# Altium integrated library Linear Technology Power Management Hot Swap Controllers.IntLib: 992 symbols (part 90 of 93)
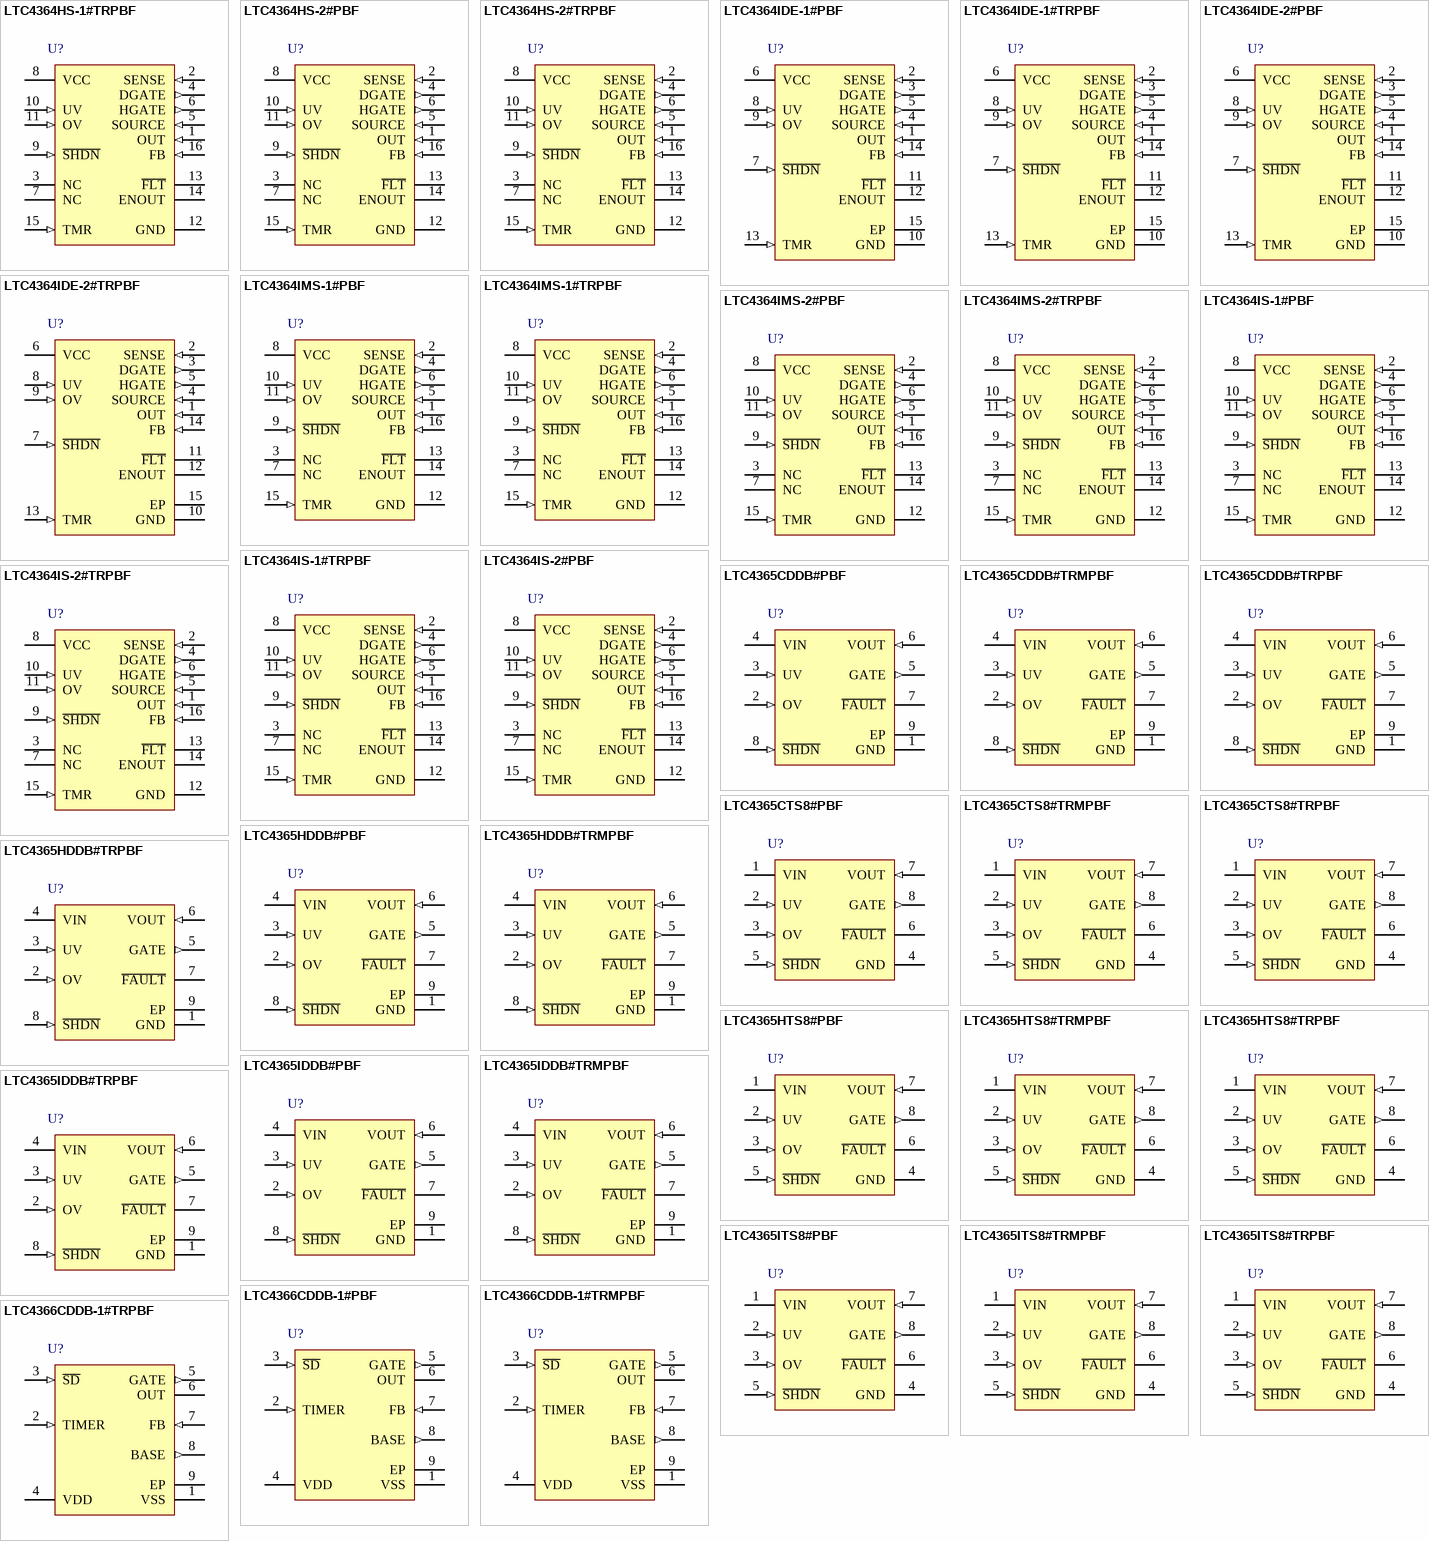
[diagram p126: symbols LTC4364HS-1#TRPBF to LTC4366CDDB-1#TRPBF]

## LTC4365IDDB#PBF
designator U?
UV, OV and Reverse Supply Protection Controller, 2.5 to 34 V Vin, 8-pin SON (DDB-8), -40 to 85 degC, Pb-Free; Manufacturer: Linear Technology; PartNumber: LTC4365IDDB#PBF; Active Limiting: no; Circuit Breakers(#): 1; Extended Temp: C, I, H; Fault: yes; PackageVersion: Rev. B, 06/2010; PackageReference: DDB-8; PackageDescription: 8-Pin Plastic DFN, Body 3 x 2 mm, Pitch 0.5 mm; Supplier 1: Farnell; Supplier Part Number 1: 2295348; Supplier 2: Newark; Supplier Part Number 2: 78T3387; Fast Comparator: no; Foldback: no; Power Good: no; Reset: no; RoHS: TRUE; Vin Range: 2.5 to 34 V; Mounting Technology: Surface Mount; Code_JEDEC: MO-229; ComponentLink1Description: Manufacturer URL; ComponentLink1URL: http://www.linear.com/; ComponentLink2Description: Datasheet; ComponentLink2URL: http://cds.linear.com/docs/en/datasheet/4365f.pdf; ComponentLink3Description: Package Specification; ComponentLink3URL: http://cds.linear.com/docs/en/packaging/DFN_8_05-08-1702.pdf
footprint LT-DDB-8_V (SON, 8-Leads, Body 3x2mm, Pitch 0.5mm, Thermal Pad 2.2x0.61mm)
pins: 1 GND (power) "Device Ground.", 2 OV (in) "Overvoltage Comparator Input. Connect this pin to an external resistive divider to set the desired VIN overvoltage fault threshold. Input to an accurate, fast (1us) comparator with a 0.5V rising threshold and 25mV of (See Datasheet)", 3 UV (in) "Undervoltage Comparator Input. Connect this pin to an external resistive divider to set the desired VIN undervoltage fault threshold. Input to an accurate, fast (1us) comparator with a 0.5V falling threshold and 25mV of (See Datasheet)", 4 VIN (power) "Power Supply Input. Maximum protection range: -40V to 60V. Operating range: 2.5V to 34V.", 5 GATE (out) "Gate Drive Output for External N-channel MOSFETs. An internal charge pump provides 20uA of pull-up current and up to 9.8V of enhancement to the gate of an external N-channel MOSFET When turned off, GATE is pulled just below (See Datasheet)", 6 VOUT (in) "Output Voltage Sense Input. This pin senses the voltage at the output side of the external N-channel MOSFET. The GATE charge pump voltage is referenced to VOUT. It is used as the charge pump input when VOUT is greater than (See Datasheet)", 7 ~{FAULT} (oc) "Fault Indication Output. This high voltage open drain output is pulled low if UV is below its monitor threshold, if OV is above its monitor threshold, if S\H\D\N\ is low, or if VIN has not risen above VIN(UVLO).", 8 ~{SHDN} (in) "Shutdown Control Input. S\H\D\N\ high enables the GATE charge pump which in turn enhances the gate of an external N-channel MOSFET. A low on S\H\D\N\ generates a pull down on the GATE output with a 90uA current sink and (See Datasheet)", 9 EP (power) "Connect to device ground"

## LTC4365IDDB#TRMPBF
designator U?
UV, OV and Reverse Supply Protection Controller, 2.5 to 34 V Vin, 8-pin SON (DDB-8), -40 to 85 degC, Pb-Free, Mini Tape and Reel; Manufacturer: Linear Technology; PartNumber: LTC4365IDDB#TRMPBF; Active Limiting: no; Circuit Breakers(#): 1; Extended Temp: C, I, H; Fault: yes; PackageVersion: Rev. B, 06/2010; PackageReference: DDB-8; PackageDescription: 8-Pin Plastic DFN, Body 3 x 2 mm, Pitch 0.5 mm; Supplier 1: Digi-Key; Supplier Part Number 1: LTC4365IDDB#TRMPBFTR-ND; Supplier 2: Digi-Key; Supplier Part Number 2: LTC4365IDDB#TRMPBFCT-ND; Supplier 3: Digi-Key; Supplier Part Number 3: LTC4365IDDB#TRMPBFDKR-ND; Supplier 4: Newark; Supplier Part Number 4: 13T4033; Fast Comparator: no; Foldback: no; Packing: Mini Tape and Reel; Power Good: no; Reset: no; RoHS: TRUE; Vin Range: 2.5 to 34 V; Mounting Technology: Surface Mount; Code_JEDEC: MO-229; ComponentLink1Description: Manufacturer URL; ComponentLink1URL: http://www.linear.com/; ComponentLink2Description: Datasheet; ComponentLink2URL: http://cds.linear.com/docs/en/datasheet/4365f.pdf; ComponentLink3Description: Package Specification; ComponentLink3URL: http://cds.linear.com/docs/en/packaging/DFN_8_05-08-1702.pdf
footprint LT-DDB-8_V (SON, 8-Leads, Body 3x2mm, Pitch 0.5mm, Thermal Pad 2.2x0.61mm)
pins: 1 GND (power) "Device Ground.", 2 OV (in) "Overvoltage Comparator Input. Connect this pin to an external resistive divider to set the desired VIN overvoltage fault threshold. Input to an accurate, fast (1us) comparator with a 0.5V rising threshold and 25mV of (See Datasheet)", 3 UV (in) "Undervoltage Comparator Input. Connect this pin to an external resistive divider to set the desired VIN undervoltage fault threshold. Input to an accurate, fast (1us) comparator with a 0.5V falling threshold and 25mV of (See Datasheet)", 4 VIN (power) "Power Supply Input. Maximum protection range: -40V to 60V. Operating range: 2.5V to 34V.", 5 GATE (out) "Gate Drive Output for External N-channel MOSFETs. An internal charge pump provides 20uA of pull-up current and up to 9.8V of enhancement to the gate of an external N-channel MOSFET When turned off, GATE is pulled just below (See Datasheet)", 6 VOUT (in) "Output Voltage Sense Input. This pin senses the voltage at the output side of the external N-channel MOSFET. The GATE charge pump voltage is referenced to VOUT. It is used as the charge pump input when VOUT is greater than (See Datasheet)", 7 ~{FAULT} (oc) "Fault Indication Output. This high voltage open drain output is pulled low if UV is below its monitor threshold, if OV is above its monitor threshold, if S\H\D\N\ is low, or if VIN has not risen above VIN(UVLO).", 8 ~{SHDN} (in) "Shutdown Control Input. S\H\D\N\ high enables the GATE charge pump which in turn enhances the gate of an external N-channel MOSFET. A low on S\H\D\N\ generates a pull down on the GATE output with a 90uA current sink and (See Datasheet)", 9 EP (power) "Connect to device ground"

## LTC4365IDDB#TRPBF
designator U?
UV, OV and Reverse Supply Protection Controller, 2.5 to 34 V Vin, 8-pin SON (DDB-8), -40 to 85 degC, Pb-Free, Tape and Reel; Manufacturer: Linear Technology; PartNumber: LTC4365IDDB#TRPBF; Active Limiting: no; Circuit Breakers(#): 1; Extended Temp: C, I, H; Fault: yes; PackageVersion: Rev. B, 06/2010; PackageReference: DDB-8; PackageDescription: 8-Pin Plastic DFN, Body 3 x 2 mm, Pitch 0.5 mm; Supplier 1: Digi-Key; Supplier Part Number 1: LTC4365IDDB#TRPBF-ND; Supplier 2: Newark; Supplier Part Number 2: 13T4034; Fast Comparator: no; Foldback: no; Packing: Tape and Reel; Power Good: no; Reset: no; RoHS: TRUE; Vin Range: 2.5 to 34 V; Mounting Technology: Surface Mount; Code_JEDEC: MO-229; ComponentLink1Description: Manufacturer URL; ComponentLink1URL: http://www.linear.com/; ComponentLink2Description: Datasheet; ComponentLink2URL: http://cds.linear.com/docs/en/datasheet/4365f.pdf; ComponentLink3Description: Package Specification; ComponentLink3URL: http://cds.linear.com/docs/en/packaging/DFN_8_05-08-1702.pdf
footprint LT-DDB-8_V (SON, 8-Leads, Body 3x2mm, Pitch 0.5mm, Thermal Pad 2.2x0.61mm)
pins: 1 GND (power) "Device Ground.", 2 OV (in) "Overvoltage Comparator Input. Connect this pin to an external resistive divider to set the desired VIN overvoltage fault threshold. Input to an accurate, fast (1us) comparator with a 0.5V rising threshold and 25mV of (See Datasheet)", 3 UV (in) "Undervoltage Comparator Input. Connect this pin to an external resistive divider to set the desired VIN undervoltage fault threshold. Input to an accurate, fast (1us) comparator with a 0.5V falling threshold and 25mV of (See Datasheet)", 4 VIN (power) "Power Supply Input. Maximum protection range: -40V to 60V. Operating range: 2.5V to 34V.", 5 GATE (out) "Gate Drive Output for External N-channel MOSFETs. An internal charge pump provides 20uA of pull-up current and up to 9.8V of enhancement to the gate of an external N-channel MOSFET When turned off, GATE is pulled just below (See Datasheet)", 6 VOUT (in) "Output Voltage Sense Input. This pin senses the voltage at the output side of the external N-channel MOSFET. The GATE charge pump voltage is referenced to VOUT. It is used as the charge pump input when VOUT is greater than (See Datasheet)", 7 ~{FAULT} (oc) "Fault Indication Output. This high voltage open drain output is pulled low if UV is below its monitor threshold, if OV is above its monitor threshold, if S\H\D\N\ is low, or if VIN has not risen above VIN(UVLO).", 8 ~{SHDN} (in) "Shutdown Control Input. S\H\D\N\ high enables the GATE charge pump which in turn enhances the gate of an external N-channel MOSFET. A low on S\H\D\N\ generates a pull down on the GATE output with a 90uA current sink and (See Datasheet)", 9 EP (power) "Connect to device ground"

## LTC4365ITS8#PBF
designator U?
UV, OV and Reverse Supply Protection Controller, 2.5 to 34 V Vin, 8-pin SOT23 (TS8-8), -40 to 85 degC, Pb-Free; Manufacturer: Linear Technology; PartNumber: LTC4365ITS8#PBF; Active Limiting: no; Circuit Breakers(#): 1; Extended Temp: C, I, H; Fault: yes; PackageVersion: Rev. A, 08/2010; PackageReference: TS8-8; PackageDescription: 8-Pin Plastic TSOT-23, Body 2.9 x 1.63 mm, Pitch 0.65 mm; Supplier 1: Newark; Supplier Part Number 1: 78T3388; Fast Comparator: no; Foldback: no; Power Good: no; Reset: no; RoHS: TRUE; Vin Range: 2.5 to 34 V; Mounting Technology: Surface Mount; Code_JEDEC: MO-193; ComponentLink1Description: Manufacturer URL; ComponentLink1URL: http://www.linear.com/; ComponentLink2Description: Datasheet; ComponentLink2URL: http://cds.linear.com/docs/en/datasheet/4365f.pdf; ComponentLink3Description: Package Specification; ComponentLink3URL: http://cds.linear.com/docs/en/packaging/SOT_8_05-08-1637.pdf
footprint LT-TS8-8-TSOT-23_V (SOT23, 8-Leads, Body 2.9x1.75mm, Pitch 0.65mm)
pins: 1 VIN (power) "Power Supply Input. Maximum protection range: -40V to 60V. Operating range: 2.5V to 34V.", 2 UV (in) "Undervoltage Comparator Input. Connect this pin to an external resistive divider to set the desired VIN undervoltage fault threshold. Input to an accurate, fast (1us) comparator with a 0.5V falling threshold and 25mV of (See Datasheet)", 3 OV (in) "Overvoltage Comparator Input. Connect this pin to an external resistive divider to set the desired VIN overvoltage fault threshold. Input to an accurate, fast (1us) comparator with a 0.5V rising threshold and 25mV of (See Datasheet)", 4 GND (power) "Device Ground", 5 ~{SHDN} (in) "Shutdown Control Input. S\H\D\N\ high enables the GATE charge pump which in turn enhances the gate of an external N-channel MOSFET. A low on S\H\D\N\ generates a pull down on the GATE output with a 90uA current sink and (See Datasheet)", 6 ~{FAULT} (oc) "Fault Indication Output. This high voltage open drain output is pulled low if UV is below its monitor threshold, if OV is above its monitor threshold, if S\H\D\N\ is low, or if VIN has not risen above VIN(UVLO).", 7 VOUT (in) "Output Voltage Sense Input. This pin senses the voltage at the output side of the external N-channel MOSFET. The GATE charge pump voltage is referenced to VOUT. It is used as the charge pump input when VOUT is greater than (See Datasheet)", 8 GATE (out) "Gate Drive Output for External N-channel MOSFETs. An internal charge pump provides 20uA of pull-up current and up to 9.8V of enhancement to the gate of an external N-channel MOSFET When turned off, GATE is pulled just below (See Datasheet)"

## LTC4365ITS8#TRMPBF
designator U?
UV, OV and Reverse Supply Protection Controller, 2.5 to 34 V Vin, 8-pin SOT23 (TS8-8), -40 to 85 degC, Pb-Free, Mini Tape and Reel; Manufacturer: Linear Technology; PartNumber: LTC4365ITS8#TRMPBF; Active Limiting: no; Circuit Breakers(#): 1; Extended Temp: C, I, H; Fault: yes; PackageVersion: Rev. A, 08/2010; PackageReference: TS8-8; PackageDescription: 8-Pin Plastic TSOT-23, Body 2.9 x 1.63 mm, Pitch 0.65 mm; Supplier 1: Digi-Key; Supplier Part Number 1: LTC4365ITS8#TRMPBF-ND; Supplier 2: Newark; Supplier Part Number 2: 13T4035; Fast Comparator: no; Foldback: no; Packing: Mini Tape and Reel; Power Good: no; Reset: no; RoHS: TRUE; Vin Range: 2.5 to 34 V; Mounting Technology: Surface Mount; Code_JEDEC: MO-193; ComponentLink1Description: Manufacturer URL; ComponentLink1URL: http://www.linear.com/; ComponentLink2Description: Datasheet; ComponentLink2URL: http://cds.linear.com/docs/en/datasheet/4365f.pdf; ComponentLink3Description: Package Specification; ComponentLink3URL: http://cds.linear.com/docs/en/packaging/SOT_8_05-08-1637.pdf
footprint LT-TS8-8-TSOT-23_V (SOT23, 8-Leads, Body 2.9x1.75mm, Pitch 0.65mm)
pins: 1 VIN (power) "Power Supply Input. Maximum protection range: -40V to 60V. Operating range: 2.5V to 34V.", 2 UV (in) "Undervoltage Comparator Input. Connect this pin to an external resistive divider to set the desired VIN undervoltage fault threshold. Input to an accurate, fast (1us) comparator with a 0.5V falling threshold and 25mV of (See Datasheet)", 3 OV (in) "Overvoltage Comparator Input. Connect this pin to an external resistive divider to set the desired VIN overvoltage fault threshold. Input to an accurate, fast (1us) comparator with a 0.5V rising threshold and 25mV of (See Datasheet)", 4 GND (power) "Device Ground", 5 ~{SHDN} (in) "Shutdown Control Input. S\H\D\N\ high enables the GATE charge pump which in turn enhances the gate of an external N-channel MOSFET. A low on S\H\D\N\ generates a pull down on the GATE output with a 90uA current sink and (See Datasheet)", 6 ~{FAULT} (oc) "Fault Indication Output. This high voltage open drain output is pulled low if UV is below its monitor threshold, if OV is above its monitor threshold, if S\H\D\N\ is low, or if VIN has not risen above VIN(UVLO).", 7 VOUT (in) "Output Voltage Sense Input. This pin senses the voltage at the output side of the external N-channel MOSFET. The GATE charge pump voltage is referenced to VOUT. It is used as the charge pump input when VOUT is greater than (See Datasheet)", 8 GATE (out) "Gate Drive Output for External N-channel MOSFETs. An internal charge pump provides 20uA of pull-up current and up to 9.8V of enhancement to the gate of an external N-channel MOSFET When turned off, GATE is pulled just below (See Datasheet)"

## LTC4365ITS8#TRPBF
designator U?
UV, OV and Reverse Supply Protection Controller, 2.5 to 34 V Vin, 8-pin SOT23 (TS8-8), -40 to 85 degC, Pb-Free, Tape and Reel; Manufacturer: Linear Technology; PartNumber: LTC4365ITS8#TRPBF; Active Limiting: no; Circuit Breakers(#): 1; Extended Temp: C, I, H; Fault: yes; PackageVersion: Rev. A, 08/2010; PackageReference: TS8-8; PackageDescription: 8-Pin Plastic TSOT-23, Body 2.9 x 1.63 mm, Pitch 0.65 mm; Supplier 1: Digi-Key; Supplier Part Number 1: LTC4365ITS8#TRPBF-ND; Supplier 2: Newark; Supplier Part Number 2: 13T4036; Fast Comparator: no; Foldback: no; Packing: Tape and Reel; Power Good: no; Reset: no; RoHS: TRUE; Vin Range: 2.5 to 34 V; Mounting Technology: Surface Mount; Code_JEDEC: MO-193; ComponentLink1Description: Manufacturer URL; ComponentLink1URL: http://www.linear.com/; ComponentLink2Description: Datasheet; ComponentLink2URL: http://cds.linear.com/docs/en/datasheet/4365f.pdf; ComponentLink3Description: Package Specification; ComponentLink3URL: http://cds.linear.com/docs/en/packaging/SOT_8_05-08-1637.pdf
footprint LT-TS8-8-TSOT-23_V (SOT23, 8-Leads, Body 2.9x1.75mm, Pitch 0.65mm)
pins: 1 VIN (power) "Power Supply Input. Maximum protection range: -40V to 60V. Operating range: 2.5V to 34V.", 2 UV (in) "Undervoltage Comparator Input. Connect this pin to an external resistive divider to set the desired VIN undervoltage fault threshold. Input to an accurate, fast (1us) comparator with a 0.5V falling threshold and 25mV of (See Datasheet)", 3 OV (in) "Overvoltage Comparator Input. Connect this pin to an external resistive divider to set the desired VIN overvoltage fault threshold. Input to an accurate, fast (1us) comparator with a 0.5V rising threshold and 25mV of (See Datasheet)", 4 GND (power) "Device Ground", 5 ~{SHDN} (in) "Shutdown Control Input. S\H\D\N\ high enables the GATE charge pump which in turn enhances the gate of an external N-channel MOSFET. A low on S\H\D\N\ generates a pull down on the GATE output with a 90uA current sink and (See Datasheet)", 6 ~{FAULT} (oc) "Fault Indication Output. This high voltage open drain output is pulled low if UV is below its monitor threshold, if OV is above its monitor threshold, if S\H\D\N\ is low, or if VIN has not risen above VIN(UVLO).", 7 VOUT (in) "Output Voltage Sense Input. This pin senses the voltage at the output side of the external N-channel MOSFET. The GATE charge pump voltage is referenced to VOUT. It is used as the charge pump input when VOUT is greater than (See Datasheet)", 8 GATE (out) "Gate Drive Output for External N-channel MOSFETs. An internal charge pump provides 20uA of pull-up current and up to 9.8V of enhancement to the gate of an external N-channel MOSFET When turned off, GATE is pulled just below (See Datasheet)"

## LTC4366CDDB-1#PBF
designator U?
High Voltage Surge Stopper, 9 to Over 500 V Vin, 8-pin SON (DDB-8), 0 to 70 degC, Pb-Free; Manufacturer: Linear Technology; PartNumber: LTC4366CDDB-1#PBF; Circuit Breakers(#): 1; Extended Temp: C, I, H, MP; Fast Comparator: no; DatasheetVersion: Rev. C; PackageVersion: Rev. B, 06/2010; PackageReference: DDB-8; PackageDescription: 8-Pin Plastic DFN, Body 3 x 2 mm, Pitch 0.5 mm; Power Good: no; RoHS: TRUE; Vin Range: 9 to Over 500 V; Mounting Technology: Surface Mount; Code_JEDEC: MO-229; ComponentLink1Description: Manufacturer URL; ComponentLink1URL: http://www.linear.com/; ComponentLink2Description: Datasheet; ComponentLink2URL: http://cds.linear.com/docs/en/datasheet/436612fc.pdf; ComponentLink3Description: Package Specification; ComponentLink3URL: http://cds.linear.com/docs/en/packaging/DFN_8_05-08-1702.pdf
footprint LT-DDB-8_V (SON, 8-Leads, Body 3x2mm, Pitch 0.5mm, Thermal Pad 2.2x0.61mm)
pins: 1 VSS (power) "Device Return and Substrate. The capacitors on the TIMER and OUT pins should be returned to this pin.", 2 TIMER (in) "Timer Input. Leave this pin open for a 1us overvoltage regulation period before fault off. Connect a capacitor between this pin and VSS to set a 278ms/uF duration for overvoltage regulation before the switch is turned off. (See Datasheet)", 3 ~{SD} (in) "Shutdown Comparator Input. Tie to VDD if unused. Connect pin to a limited current pull down created by adding a resistor in series with an open-drain or open-collector pull-down transistor. Activating the external pull down (See Datasheet)", 4 VDD (power) "Start-Up Supply. Supply input for 7.5uA start-up current source that charges the gate of the external N-channel MOSFET. Also provides supply for timer and logic circuits active when the external MOSFET is off. This pin is (See Datasheet)", 5 GATE (out) "Gate Drive for External N-Channel MOSFET. During start-up an internal 7.5uA current source charges the gate of the external N-channel MOSFET from the VDD pin. Once the OUT voltage is above VSS by 4.75V, the charge pump will (See Datasheet)", 6 OUT (power) "Charge Pump and Overvoltage Regulation Amplifier Supply Voltage. Supply input for floating circuitry powered from the MOSFET source. Once the OUT voltage is above 4.75V (UVLO2), the charge pump will turn on and draw power (See Datasheet)", 7 FB (in) "Overvoltage Regulation Amplifier Feedback Input. Connect this pin to an external resistive divider from OUT to ground. The overvoltage regulation amplifier controls the gate of the external N-channel MOSFET to regulate the (See Datasheet)", 8 BASE (out) "Base Driver Output for External PNP Shunt Regulator. This pin is connected to the anode of an internal 6.2V Zener with the cathode tied to OUT. In cases where lower Q current is desired but a large VSS resistor is (See Datasheet)", 9 EP (power) "The exposed pad may be left open or connected to VSS."

## LTC4366CDDB-1#TRMPBF
designator U?
High Voltage Surge Stopper, 9 to Over 500 V Vin, 8-pin SON (DDB-8), 0 to 70 degC, Pb-Free, Mini Tape and Reel; Manufacturer: Linear Technology; PartNumber: LTC4366CDDB-1#TRMPBF; Circuit Breakers(#): 1; Extended Temp: C, I, H, MP; Fast Comparator: no; DatasheetVersion: Rev. C; PackageVersion: Rev. B, 06/2010; PackageReference: DDB-8; PackageDescription: 8-Pin Plastic DFN, Body 3 x 2 mm, Pitch 0.5 mm; Supplier 1: Digi-Key; Supplier Part Number 1: LTC4366CDDB-1#TRMPBFTR-ND; Supplier 2: Digi-Key; Supplier Part Number 2: LTC4366CDDB-1#TRMPBFCT-ND; Supplier 3: Digi-Key; Supplier Part Number 3: LTC4366CDDB-1#TRMPBFDKR-ND; Supplier 4: Farnell; Supplier Part Number 4: 2097912; Packing: Mini Tape and Reel; Power Good: no; RoHS: TRUE; Vin Range: 9 to Over 500 V; Mounting Technology: Surface Mount; Code_JEDEC: MO-229; ComponentLink1Description: Manufacturer URL; ComponentLink1URL: http://www.linear.com/; ComponentLink2Description: Datasheet; ComponentLink2URL: http://cds.linear.com/docs/en/datasheet/436612fc.pdf; ComponentLink3Description: Package Specification; ComponentLink3URL: http://cds.linear.com/docs/en/packaging/DFN_8_05-08-1702.pdf
footprint LT-DDB-8_V (SON, 8-Leads, Body 3x2mm, Pitch 0.5mm, Thermal Pad 2.2x0.61mm)
pins: 1 VSS (power) "Device Return and Substrate. The capacitors on the TIMER and OUT pins should be returned to this pin.", 2 TIMER (in) "Timer Input. Leave this pin open for a 1us overvoltage regulation period before fault off. Connect a capacitor between this pin and VSS to set a 278ms/uF duration for overvoltage regulation before the switch is turned off. (See Datasheet)", 3 ~{SD} (in) "Shutdown Comparator Input. Tie to VDD if unused. Connect pin to a limited current pull down created by adding a resistor in series with an open-drain or open-collector pull-down transistor. Activating the external pull down (See Datasheet)", 4 VDD (power) "Start-Up Supply. Supply input for 7.5uA start-up current source that charges the gate of the external N-channel MOSFET. Also provides supply for timer and logic circuits active when the external MOSFET is off. This pin is (See Datasheet)", 5 GATE (out) "Gate Drive for External N-Channel MOSFET. During start-up an internal 7.5uA current source charges the gate of the external N-channel MOSFET from the VDD pin. Once the OUT voltage is above VSS by 4.75V, the charge pump will (See Datasheet)", 6 OUT (power) "Charge Pump and Overvoltage Regulation Amplifier Supply Voltage. Supply input for floating circuitry powered from the MOSFET source. Once the OUT voltage is above 4.75V (UVLO2), the charge pump will turn on and draw power (See Datasheet)", 7 FB (in) "Overvoltage Regulation Amplifier Feedback Input. Connect this pin to an external resistive divider from OUT to ground. The overvoltage regulation amplifier controls the gate of the external N-channel MOSFET to regulate the (See Datasheet)", 8 BASE (out) "Base Driver Output for External PNP Shunt Regulator. This pin is connected to the anode of an internal 6.2V Zener with the cathode tied to OUT. In cases where lower Q current is desired but a large VSS resistor is (See Datasheet)", 9 EP (power) "The exposed pad may be left open or connected to VSS."

## LTC4366CDDB-1#TRPBF
designator U?
High Voltage Surge Stopper, 9 to Over 500 V Vin, 8-pin SON (DDB-8), 0 to 70 degC, Pb-Free, Tape and Reel; Manufacturer: Linear Technology; PartNumber: LTC4366CDDB-1#TRPBF; Circuit Breakers(#): 1; Extended Temp: C, I, H, MP; Fast Comparator: no; DatasheetVersion: Rev. C; PackageVersion: Rev. B, 06/2010; PackageReference: DDB-8; PackageDescription: 8-Pin Plastic DFN, Body 3 x 2 mm, Pitch 0.5 mm; Supplier 1: Digi-Key; Supplier Part Number 1: LTC4366CDDB-1#TRPBF-ND; Packing: Tape and Reel; Power Good: no; RoHS: TRUE; Vin Range: 9 to Over 500 V; Mounting Technology: Surface Mount; Code_JEDEC: MO-229; ComponentLink1Description: Manufacturer URL; ComponentLink1URL: http://www.linear.com/; ComponentLink2Description: Datasheet; ComponentLink2URL: http://cds.linear.com/docs/en/datasheet/436612fc.pdf; ComponentLink3Description: Package Specification; ComponentLink3URL: http://cds.linear.com/docs/en/packaging/DFN_8_05-08-1702.pdf
footprint LT-DDB-8_V (SON, 8-Leads, Body 3x2mm, Pitch 0.5mm, Thermal Pad 2.2x0.61mm)
pins: 1 VSS (power) "Device Return and Substrate. The capacitors on the TIMER and OUT pins should be returned to this pin.", 2 TIMER (in) "Timer Input. Leave this pin open for a 1us overvoltage regulation period before fault off. Connect a capacitor between this pin and VSS to set a 278ms/uF duration for overvoltage regulation before the switch is turned off. (See Datasheet)", 3 ~{SD} (in) "Shutdown Comparator Input. Tie to VDD if unused. Connect pin to a limited current pull down created by adding a resistor in series with an open-drain or open-collector pull-down transistor. Activating the external pull down (See Datasheet)", 4 VDD (power) "Start-Up Supply. Supply input for 7.5uA start-up current source that charges the gate of the external N-channel MOSFET. Also provides supply for timer and logic circuits active when the external MOSFET is off. This pin is (See Datasheet)", 5 GATE (out) "Gate Drive for External N-Channel MOSFET. During start-up an internal 7.5uA current source charges the gate of the external N-channel MOSFET from the VDD pin. Once the OUT voltage is above VSS by 4.75V, the charge pump will (See Datasheet)", 6 OUT (power) "Charge Pump and Overvoltage Regulation Amplifier Supply Voltage. Supply input for floating circuitry powered from the MOSFET source. Once the OUT voltage is above 4.75V (UVLO2), the charge pump will turn on and draw power (See Datasheet)", 7 FB (in) "Overvoltage Regulation Amplifier Feedback Input. Connect this pin to an external resistive divider from OUT to ground. The overvoltage regulation amplifier controls the gate of the external N-channel MOSFET to regulate the (See Datasheet)", 8 BASE (out) "Base Driver Output for External PNP Shunt Regulator. This pin is connected to the anode of an internal 6.2V Zener with the cathode tied to OUT. In cases where lower Q current is desired but a large VSS resistor is (See Datasheet)", 9 EP (power) "The exposed pad may be left open or connected to VSS."

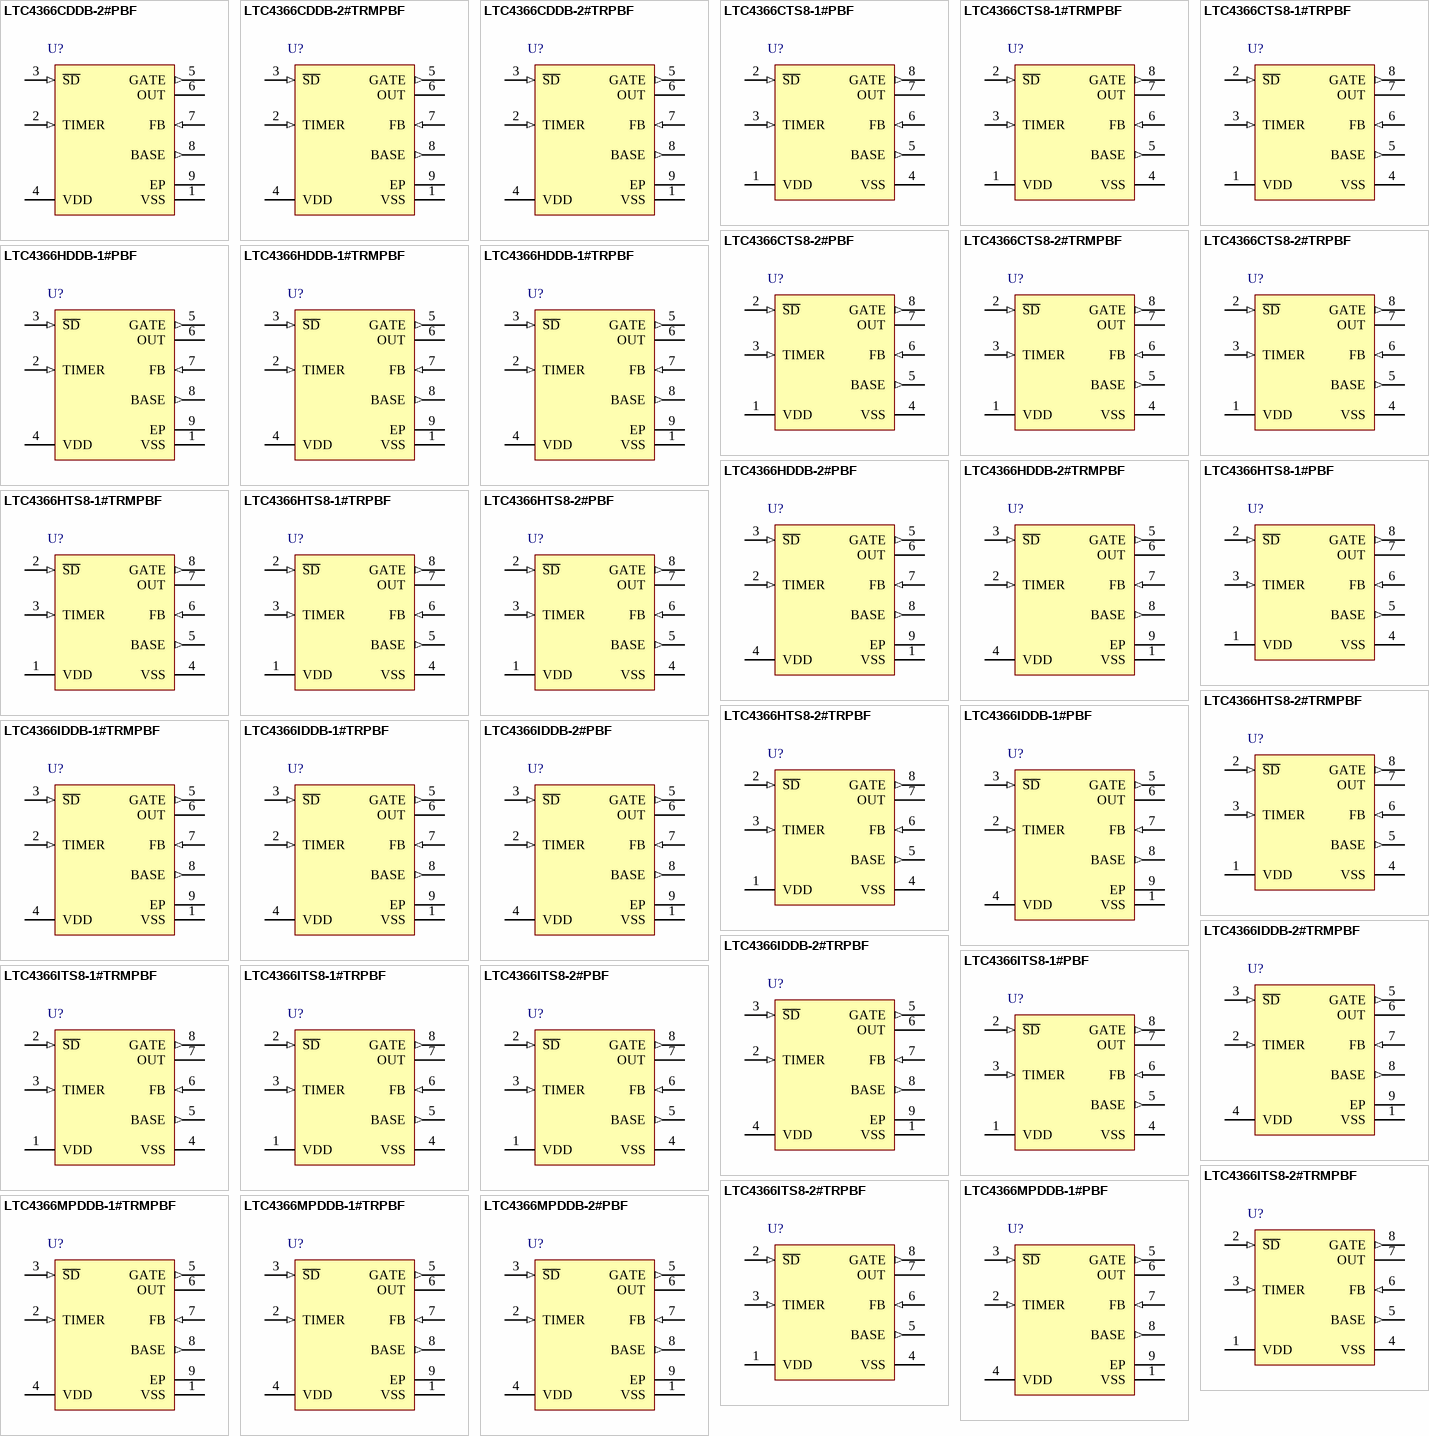
[diagram p36: symbols LTC4366CDDB-2#PBF to LTC4366MPDDB-2#PBF]

## LTC4366CDDB-2#PBF
designator U?
High Voltage Surge Stopper, 9 to Over 500 V Vin, 8-pin SON (DDB-8), 0 to 70 degC, Pb-Free; Manufacturer: Linear Technology; PartNumber: LTC4366CDDB-2#PBF; Circuit Breakers(#): 1; Extended Temp: C, I, H, MP; Fast Comparator: no; DatasheetVersion: Rev. C; PackageVersion: Rev. B, 06/2010; PackageReference: DDB-8; PackageDescription: 8-Pin Plastic DFN, Body 3 x 2 mm, Pitch 0.5 mm; Power Good: no; RoHS: TRUE; Vin Range: 9 to Over 500 V; Mounting Technology: Surface Mount; Code_JEDEC: MO-229; ComponentLink1Description: Manufacturer URL; ComponentLink1URL: http://www.linear.com/; ComponentLink2Description: Datasheet; ComponentLink2URL: http://cds.linear.com/docs/en/datasheet/436612fc.pdf; ComponentLink3Description: Package Specification; ComponentLink3URL: http://cds.linear.com/docs/en/packaging/DFN_8_05-08-1702.pdf
footprint LT-DDB-8_V (SON, 8-Leads, Body 3x2mm, Pitch 0.5mm, Thermal Pad 2.2x0.61mm)
pins: 1 VSS (power) "Device Return and Substrate. The capacitors on the TIMER and OUT pins should be returned to this pin.", 2 TIMER (in) "Timer Input. Leave this pin open for a 1us overvoltage regulation period before fault off. Connect a capacitor between this pin and VSS to set a 278ms/uF duration for overvoltage regulation before the switch is turned off. (See Datasheet)", 3 ~{SD} (in) "Shutdown Comparator Input. Tie to VDD if unused. Connect pin to a limited current pull down created by adding a resistor in series with an open-drain or open-collector pull-down transistor. Activating the external pull down (See Datasheet)", 4 VDD (power) "Start-Up Supply. Supply input for 7.5uA start-up current source that charges the gate of the external N-channel MOSFET. Also provides supply for timer and logic circuits active when the external MOSFET is off. This pin is (See Datasheet)", 5 GATE (out) "Gate Drive for External N-Channel MOSFET. During start-up an internal 7.5uA current source charges the gate of the external N-channel MOSFET from the VDD pin. Once the OUT voltage is above VSS by 4.75V, the charge pump will (See Datasheet)", 6 OUT (power) "Charge Pump and Overvoltage Regulation Amplifier Supply Voltage. Supply input for floating circuitry powered from the MOSFET source. Once the OUT voltage is above 4.75V (UVLO2), the charge pump will turn on and draw power (See Datasheet)", 7 FB (in) "Overvoltage Regulation Amplifier Feedback Input. Connect this pin to an external resistive divider from OUT to ground. The overvoltage regulation amplifier controls the gate of the external N-channel MOSFET to regulate the (See Datasheet)", 8 BASE (out) "Base Driver Output for External PNP Shunt Regulator. This pin is connected to the anode of an internal 6.2V Zener with the cathode tied to OUT. In cases where lower Q current is desired but a large VSS resistor is (See Datasheet)", 9 EP (power) "The exposed pad may be left open or connected to VSS."

## LTC4366CDDB-2#TRMPBF
designator U?
High Voltage Surge Stopper, 9 to Over 500 V Vin, 8-pin SON (DDB-8), 0 to 70 degC, Pb-Free, Mini Tape and Reel; Manufacturer: Linear Technology; PartNumber: LTC4366CDDB-2#TRMPBF; Circuit Breakers(#): 1; Extended Temp: C, I, H, MP; Fast Comparator: no; DatasheetVersion: Rev. C; PackageVersion: Rev. B, 06/2010; PackageReference: DDB-8; PackageDescription: 8-Pin Plastic DFN, Body 3 x 2 mm, Pitch 0.5 mm; Supplier 1: Digi-Key; Supplier Part Number 1: LTC4366CDDB-2#TRMPBFTR-ND; Supplier 2: Digi-Key; Supplier Part Number 2: LTC4366CDDB-2#TRMPBFCT-ND; Supplier 3: Digi-Key; Supplier Part Number 3: LTC4366CDDB-2#TRMPBFDKR-ND; Supplier 4: Farnell; Supplier Part Number 4: 2097907; Packing: Mini Tape and Reel; Power Good: no; RoHS: TRUE; Vin Range: 9 to Over 500 V; Mounting Technology: Surface Mount; Code_JEDEC: MO-229; ComponentLink1Description: Manufacturer URL; ComponentLink1URL: http://www.linear.com/; ComponentLink2Description: Datasheet; ComponentLink2URL: http://cds.linear.com/docs/en/datasheet/436612fc.pdf; ComponentLink3Description: Package Specification; ComponentLink3URL: http://cds.linear.com/docs/en/packaging/DFN_8_05-08-1702.pdf
footprint LT-DDB-8_V (SON, 8-Leads, Body 3x2mm, Pitch 0.5mm, Thermal Pad 2.2x0.61mm)
pins: 1 VSS (power) "Device Return and Substrate. The capacitors on the TIMER and OUT pins should be returned to this pin.", 2 TIMER (in) "Timer Input. Leave this pin open for a 1us overvoltage regulation period before fault off. Connect a capacitor between this pin and VSS to set a 278ms/uF duration for overvoltage regulation before the switch is turned off. (See Datasheet)", 3 ~{SD} (in) "Shutdown Comparator Input. Tie to VDD if unused. Connect pin to a limited current pull down created by adding a resistor in series with an open-drain or open-collector pull-down transistor. Activating the external pull down (See Datasheet)", 4 VDD (power) "Start-Up Supply. Supply input for 7.5uA start-up current source that charges the gate of the external N-channel MOSFET. Also provides supply for timer and logic circuits active when the external MOSFET is off. This pin is (See Datasheet)", 5 GATE (out) "Gate Drive for External N-Channel MOSFET. During start-up an internal 7.5uA current source charges the gate of the external N-channel MOSFET from the VDD pin. Once the OUT voltage is above VSS by 4.75V, the charge pump will (See Datasheet)", 6 OUT (power) "Charge Pump and Overvoltage Regulation Amplifier Supply Voltage. Supply input for floating circuitry powered from the MOSFET source. Once the OUT voltage is above 4.75V (UVLO2), the charge pump will turn on and draw power (See Datasheet)", 7 FB (in) "Overvoltage Regulation Amplifier Feedback Input. Connect this pin to an external resistive divider from OUT to ground. The overvoltage regulation amplifier controls the gate of the external N-channel MOSFET to regulate the (See Datasheet)", 8 BASE (out) "Base Driver Output for External PNP Shunt Regulator. This pin is connected to the anode of an internal 6.2V Zener with the cathode tied to OUT. In cases where lower Q current is desired but a large VSS resistor is (See Datasheet)", 9 EP (power) "The exposed pad may be left open or connected to VSS."

## LTC4366CDDB-2#TRPBF
designator U?
High Voltage Surge Stopper, 9 to Over 500 V Vin, 8-pin SON (DDB-8), 0 to 70 degC, Pb-Free, Tape and Reel; Manufacturer: Linear Technology; PartNumber: LTC4366CDDB-2#TRPBF; Circuit Breakers(#): 1; Extended Temp: C, I, H, MP; Fast Comparator: no; DatasheetVersion: Rev. C; PackageVersion: Rev. B, 06/2010; PackageReference: DDB-8; PackageDescription: 8-Pin Plastic DFN, Body 3 x 2 mm, Pitch 0.5 mm; Supplier 1: Digi-Key; Supplier Part Number 1: LTC4366CDDB-2#TRPBF-ND; Packing: Tape and Reel; Power Good: no; RoHS: TRUE; Vin Range: 9 to Over 500 V; Mounting Technology: Surface Mount; Code_JEDEC: MO-229; ComponentLink1Description: Manufacturer URL; ComponentLink1URL: http://www.linear.com/; ComponentLink2Description: Datasheet; ComponentLink2URL: http://cds.linear.com/docs/en/datasheet/436612fc.pdf; ComponentLink3Description: Package Specification; ComponentLink3URL: http://cds.linear.com/docs/en/packaging/DFN_8_05-08-1702.pdf
footprint LT-DDB-8_V (SON, 8-Leads, Body 3x2mm, Pitch 0.5mm, Thermal Pad 2.2x0.61mm)
pins: 1 VSS (power) "Device Return and Substrate. The capacitors on the TIMER and OUT pins should be returned to this pin.", 2 TIMER (in) "Timer Input. Leave this pin open for a 1us overvoltage regulation period before fault off. Connect a capacitor between this pin and VSS to set a 278ms/uF duration for overvoltage regulation before the switch is turned off. (See Datasheet)", 3 ~{SD} (in) "Shutdown Comparator Input. Tie to VDD if unused. Connect pin to a limited current pull down created by adding a resistor in series with an open-drain or open-collector pull-down transistor. Activating the external pull down (See Datasheet)", 4 VDD (power) "Start-Up Supply. Supply input for 7.5uA start-up current source that charges the gate of the external N-channel MOSFET. Also provides supply for timer and logic circuits active when the external MOSFET is off. This pin is (See Datasheet)", 5 GATE (out) "Gate Drive for External N-Channel MOSFET. During start-up an internal 7.5uA current source charges the gate of the external N-channel MOSFET from the VDD pin. Once the OUT voltage is above VSS by 4.75V, the charge pump will (See Datasheet)", 6 OUT (power) "Charge Pump and Overvoltage Regulation Amplifier Supply Voltage. Supply input for floating circuitry powered from the MOSFET source. Once the OUT voltage is above 4.75V (UVLO2), the charge pump will turn on and draw power (See Datasheet)", 7 FB (in) "Overvoltage Regulation Amplifier Feedback Input. Connect this pin to an external resistive divider from OUT to ground. The overvoltage regulation amplifier controls the gate of the external N-channel MOSFET to regulate the (See Datasheet)", 8 BASE (out) "Base Driver Output for External PNP Shunt Regulator. This pin is connected to the anode of an internal 6.2V Zener with the cathode tied to OUT. In cases where lower Q current is desired but a large VSS resistor is (See Datasheet)", 9 EP (power) "The exposed pad may be left open or connected to VSS."

## LTC4366CTS8-1#PBF
designator U?
High Voltage Surge Stopper, 9 to Over 500 V Vin, 8-pin SOT23 (TS8-8), 0 to 70 degC, Pb-Free; Manufacturer: Linear Technology; PartNumber: LTC4366CTS8-1#PBF; Circuit Breakers(#): 1; Extended Temp: C, I, H, MP; Fast Comparator: no; DatasheetVersion: Rev. C; PackageVersion: Rev. A, 08/2010; PackageReference: TS8-8; PackageDescription: 8-Pin Plastic TSOT-23, Body 2.9 x 1.63 mm, Pitch 0.65 mm; Power Good: no; RoHS: TRUE; Vin Range: 9 to Over 500 V; Mounting Technology: Surface Mount; Code_JEDEC: MO-193; ComponentLink1Description: Manufacturer URL; ComponentLink1URL: http://www.linear.com/; ComponentLink2Description: Datasheet; ComponentLink2URL: http://cds.linear.com/docs/en/datasheet/436612fc.pdf; ComponentLink3Description: Package Specification; ComponentLink3URL: http://cds.linear.com/docs/en/packaging/SOT_8_05-08-1637.pdf
footprint LT-TS8-8-TSOT-23_V (SOT23, 8-Leads, Body 2.9x1.75mm, Pitch 0.65mm)
pins: 1 VDD (power) "Start-Up Supply. Supply input for 7.5uA start-up current source that charges the gate of the external N-channel MOSFET. Also provides supply for timer and logic circuits active when the external MOSFET is off. This pin is (See Datasheet)", 2 ~{SD} (in) "Shutdown Comparator Input. Tie to VDD if unused. Connect pin to a limited current pull down created by adding a resistor in series with an open-drain or open-collector pull-down transistor. Activating the external pull down (See Datasheet)", 3 TIMER (in) "Timer Input. Leave this pin open for a 1us overvoltage regulation period before fault off. Connect a capacitor between this pin and VSS to set a 278ms/uF duration for overvoltage regulation before the switch is turned off. (See Datasheet)", 4 VSS (power) "Device Return and Substrate. The capacitors on the TIMER and OUT pins should be returned to this pin.", 5 BASE (out) "Base Driver Output for External PNP Shunt Regulator. This pin is connected to the anode of an internal 6.2V Zener with the cathode tied to OUT. In cases where lower Q current is desired but a large VSS resistor is (See Datasheet)", 6 FB (in) "Overvoltage Regulation Amplifier Feedback Input. Connect this pin to an external resistive divider from OUT to ground. The overvoltage regulation amplifier controls the gate of the external N-channel MOSFET to regulate the (See Datasheet)", 7 OUT (power) "Charge Pump and Overvoltage Regulation Amplifier Supply Voltage. Supply input for floating circuitry powered from the MOSFET source. Once the OUT voltage is above 4.75V (UVLO2), the charge pump will turn on and draw power (See Datasheet)", 8 GATE (out) "Gate Drive for External N-Channel MOSFET. During start-up an internal 7.5uA current source charges the gate of the external N-channel MOSFET from the VDD pin. Once the OUT voltage is above VSS by 4.75V, the charge pump will (See Datasheet)"

## LTC4366CTS8-1#TRMPBF
designator U?
High Voltage Surge Stopper, 9 to Over 500 V Vin, 8-pin SOT23 (TS8-8), 0 to 70 degC, Pb-Free, Mini Tape and Reel; Manufacturer: Linear Technology; PartNumber: LTC4366CTS8-1#TRMPBF; Circuit Breakers(#): 1; Extended Temp: C, I, H, MP; Fast Comparator: no; DatasheetVersion: Rev. C; PackageVersion: Rev. A, 08/2010; PackageReference: TS8-8; PackageDescription: 8-Pin Plastic TSOT-23, Body 2.9 x 1.63 mm, Pitch 0.65 mm; Supplier 1: Digi-Key; Supplier Part Number 1: LTC4366CTS8-1#TRMPBFTR-ND; Supplier 2: Digi-Key; Supplier Part Number 2: LTC4366CTS8-1#TRMPBFCT-ND; Supplier 3: Digi-Key; Supplier Part Number 3: LTC4366CTS8-1#TRMPBFDKR-ND; Supplier 4: Farnell; Supplier Part Number 4: 2097915; Packing: Mini Tape and Reel; Power Good: no; RoHS: TRUE; Vin Range: 9 to Over 500 V; Mounting Technology: Surface Mount; Code_JEDEC: MO-193; ComponentLink1Description: Manufacturer URL; ComponentLink1URL: http://www.linear.com/; ComponentLink2Description: Datasheet; ComponentLink2URL: http://cds.linear.com/docs/en/datasheet/436612fc.pdf; ComponentLink3Description: Package Specification; ComponentLink3URL: http://cds.linear.com/docs/en/packaging/SOT_8_05-08-1637.pdf
footprint LT-TS8-8-TSOT-23_V (SOT23, 8-Leads, Body 2.9x1.75mm, Pitch 0.65mm)
pins: 1 VDD (power) "Start-Up Supply. Supply input for 7.5uA start-up current source that charges the gate of the external N-channel MOSFET. Also provides supply for timer and logic circuits active when the external MOSFET is off. This pin is (See Datasheet)", 2 ~{SD} (in) "Shutdown Comparator Input. Tie to VDD if unused. Connect pin to a limited current pull down created by adding a resistor in series with an open-drain or open-collector pull-down transistor. Activating the external pull down (See Datasheet)", 3 TIMER (in) "Timer Input. Leave this pin open for a 1us overvoltage regulation period before fault off. Connect a capacitor between this pin and VSS to set a 278ms/uF duration for overvoltage regulation before the switch is turned off. (See Datasheet)", 4 VSS (power) "Device Return and Substrate. The capacitors on the TIMER and OUT pins should be returned to this pin.", 5 BASE (out) "Base Driver Output for External PNP Shunt Regulator. This pin is connected to the anode of an internal 6.2V Zener with the cathode tied to OUT. In cases where lower Q current is desired but a large VSS resistor is (See Datasheet)", 6 FB (in) "Overvoltage Regulation Amplifier Feedback Input. Connect this pin to an external resistive divider from OUT to ground. The overvoltage regulation amplifier controls the gate of the external N-channel MOSFET to regulate the (See Datasheet)", 7 OUT (power) "Charge Pump and Overvoltage Regulation Amplifier Supply Voltage. Supply input for floating circuitry powered from the MOSFET source. Once the OUT voltage is above 4.75V (UVLO2), the charge pump will turn on and draw power (See Datasheet)", 8 GATE (out) "Gate Drive for External N-Channel MOSFET. During start-up an internal 7.5uA current source charges the gate of the external N-channel MOSFET from the VDD pin. Once the OUT voltage is above VSS by 4.75V, the charge pump will (See Datasheet)"

## LTC4366CTS8-1#TRPBF
designator U?
High Voltage Surge Stopper, 9 to Over 500 V Vin, 8-pin SOT23 (TS8-8), 0 to 70 degC, Pb-Free, Tape and Reel; Manufacturer: Linear Technology; PartNumber: LTC4366CTS8-1#TRPBF; Circuit Breakers(#): 1; Extended Temp: C, I, H, MP; Fast Comparator: no; DatasheetVersion: Rev. C; PackageVersion: Rev. A, 08/2010; PackageReference: TS8-8; PackageDescription: 8-Pin Plastic TSOT-23, Body 2.9 x 1.63 mm, Pitch 0.65 mm; Supplier 1: Digi-Key; Supplier Part Number 1: LTC4366CTS8-1#TRPBF-ND; Packing: Tape and Reel; Power Good: no; RoHS: TRUE; Vin Range: 9 to Over 500 V; Mounting Technology: Surface Mount; Code_JEDEC: MO-193; ComponentLink1Description: Manufacturer URL; ComponentLink1URL: http://www.linear.com/; ComponentLink2Description: Datasheet; ComponentLink2URL: http://cds.linear.com/docs/en/datasheet/436612fc.pdf; ComponentLink3Description: Package Specification; ComponentLink3URL: http://cds.linear.com/docs/en/packaging/SOT_8_05-08-1637.pdf
footprint LT-TS8-8-TSOT-23_V (SOT23, 8-Leads, Body 2.9x1.75mm, Pitch 0.65mm)
pins: 1 VDD (power) "Start-Up Supply. Supply input for 7.5uA start-up current source that charges the gate of the external N-channel MOSFET. Also provides supply for timer and logic circuits active when the external MOSFET is off. This pin is (See Datasheet)", 2 ~{SD} (in) "Shutdown Comparator Input. Tie to VDD if unused. Connect pin to a limited current pull down created by adding a resistor in series with an open-drain or open-collector pull-down transistor. Activating the external pull down (See Datasheet)", 3 TIMER (in) "Timer Input. Leave this pin open for a 1us overvoltage regulation period before fault off. Connect a capacitor between this pin and VSS to set a 278ms/uF duration for overvoltage regulation before the switch is turned off. (See Datasheet)", 4 VSS (power) "Device Return and Substrate. The capacitors on the TIMER and OUT pins should be returned to this pin.", 5 BASE (out) "Base Driver Output for External PNP Shunt Regulator. This pin is connected to the anode of an internal 6.2V Zener with the cathode tied to OUT. In cases where lower Q current is desired but a large VSS resistor is (See Datasheet)", 6 FB (in) "Overvoltage Regulation Amplifier Feedback Input. Connect this pin to an external resistive divider from OUT to ground. The overvoltage regulation amplifier controls the gate of the external N-channel MOSFET to regulate the (See Datasheet)", 7 OUT (power) "Charge Pump and Overvoltage Regulation Amplifier Supply Voltage. Supply input for floating circuitry powered from the MOSFET source. Once the OUT voltage is above 4.75V (UVLO2), the charge pump will turn on and draw power (See Datasheet)", 8 GATE (out) "Gate Drive for External N-Channel MOSFET. During start-up an internal 7.5uA current source charges the gate of the external N-channel MOSFET from the VDD pin. Once the OUT voltage is above VSS by 4.75V, the charge pump will (See Datasheet)"

## LTC4366CTS8-2#PBF
designator U?
High Voltage Surge Stopper, 9 to Over 500 V Vin, 8-pin SOT23 (TS8-8), 0 to 70 degC, Pb-Free; Manufacturer: Linear Technology; PartNumber: LTC4366CTS8-2#PBF; Circuit Breakers(#): 1; Extended Temp: C, I, H, MP; Fast Comparator: no; DatasheetVersion: Rev. C; PackageVersion: Rev. A, 08/2010; PackageReference: TS8-8; PackageDescription: 8-Pin Plastic TSOT-23, Body 2.9 x 1.63 mm, Pitch 0.65 mm; Supplier 1: Farnell; Supplier Part Number 1: 2308159; Supplier 2: Newark; Supplier Part Number 2: 78T3398; Power Good: no; RoHS: TRUE; Vin Range: 9 to Over 500 V; Mounting Technology: Surface Mount; Code_JEDEC: MO-193; ComponentLink1Description: Manufacturer URL; ComponentLink1URL: http://www.linear.com/; ComponentLink2Description: Datasheet; ComponentLink2URL: http://cds.linear.com/docs/en/datasheet/436612fc.pdf; ComponentLink3Description: Package Specification; ComponentLink3URL: http://cds.linear.com/docs/en/packaging/SOT_8_05-08-1637.pdf
footprint LT-TS8-8-TSOT-23_V (SOT23, 8-Leads, Body 2.9x1.75mm, Pitch 0.65mm)
pins: 1 VDD (power) "Start-Up Supply. Supply input for 7.5uA start-up current source that charges the gate of the external N-channel MOSFET. Also provides supply for timer and logic circuits active when the external MOSFET is off. This pin is (See Datasheet)", 2 ~{SD} (in) "Shutdown Comparator Input. Tie to VDD if unused. Connect pin to a limited current pull down created by adding a resistor in series with an open-drain or open-collector pull-down transistor. Activating the external pull down (See Datasheet)", 3 TIMER (in) "Timer Input. Leave this pin open for a 1us overvoltage regulation period before fault off. Connect a capacitor between this pin and VSS to set a 278ms/uF duration for overvoltage regulation before the switch is turned off. (See Datasheet)", 4 VSS (power) "Device Return and Substrate. The capacitors on the TIMER and OUT pins should be returned to this pin.", 5 BASE (out) "Base Driver Output for External PNP Shunt Regulator. This pin is connected to the anode of an internal 6.2V Zener with the cathode tied to OUT. In cases where lower Q current is desired but a large VSS resistor is (See Datasheet)", 6 FB (in) "Overvoltage Regulation Amplifier Feedback Input. Connect this pin to an external resistive divider from OUT to ground. The overvoltage regulation amplifier controls the gate of the external N-channel MOSFET to regulate the (See Datasheet)", 7 OUT (power) "Charge Pump and Overvoltage Regulation Amplifier Supply Voltage. Supply input for floating circuitry powered from the MOSFET source. Once the OUT voltage is above 4.75V (UVLO2), the charge pump will turn on and draw power (See Datasheet)", 8 GATE (out) "Gate Drive for External N-Channel MOSFET. During start-up an internal 7.5uA current source charges the gate of the external N-channel MOSFET from the VDD pin. Once the OUT voltage is above VSS by 4.75V, the charge pump will (See Datasheet)"